# EAGLE library part DAC8760 (library we-chip)
TI DAC8760 DAC (0-10V, 0-20mA)
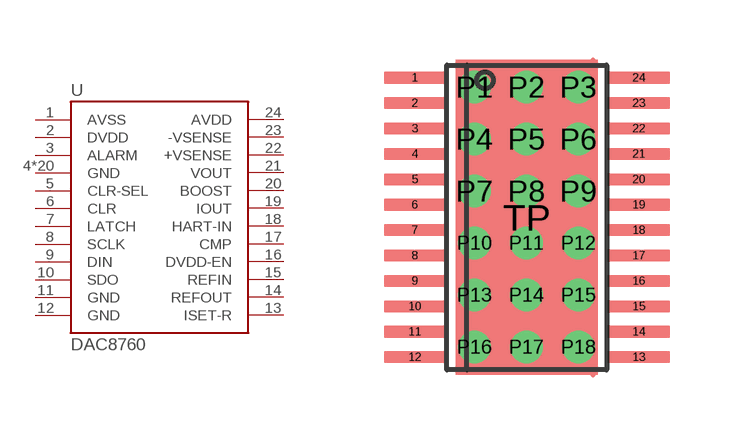
[diagram p5: symbol with the pads of HTSSOP24-PAD; footprint HTSSOP24-PAD]

Designator prefix -

## DAC8760-PWP  [HTSSOP24-PAD]
1  AVSS  pwr
2  DVDD  pwr
3  ALARM
4  GND  pwr
5  CLR-SEL
6  CLR
7  LATCH
8  SCLK
9  DIN
10  SDO
11  GND  pwr
12  GND  pwr
13  ISET-R
14  REFOUT
15  REFIN
16  DVDD-EN
17  CMP
18  HART-IN
19  IOUT
20  BOOST
21  VOUT
22  +VSENSE
23  -VSENSE
24  AVDD  pwr
P1  GND  pwr
P2  GND  pwr
P3  GND  pwr
P4  GND  pwr
P5  GND  pwr
P6  GND  pwr
P7  GND  pwr
P8  GND  pwr
P9  GND  pwr
P10  GND  pwr
P11  GND  pwr
P12  GND  pwr
P13  GND  pwr
P14  GND  pwr
P15  GND  pwr
P16  GND  pwr
P17  GND  pwr
P18  GND  pwr
TP  GND  pwr

## Footprint HTSSOP24-PAD (pad centres in mm)
smd 1.55 x 0.3: 1 -2.8,3.493; 2 -2.8,2.857; 3 -2.8,2.223; 4 -2.8,1.587; 5 -2.8,0.953; 6 -2.8,0.318; 7 -2.8,-0.318; 8 -2.8,-0.953; 9 -2.8,-1.587; 10 -2.8,-2.223; 11 -2.8,-2.857; 12 -2.8,-3.493; 13 2.8,-3.493; 14 2.8,-2.857; 15 2.8,-2.223; 16 2.8,-1.587; 17 2.8,-0.953; 18 2.8,-0.318; 19 2.8,0.318; 20 2.8,0.953; 21 2.8,1.587; 22 2.8,2.223; 23 2.8,2.857; 24 2.8,3.493
drill 0.3: P1 -1.31,3.265; P2 -0.011,3.265; P3 1.29,3.265; P4 -1.31,1.965; P5 -0.011,1.965; P6 1.29,1.965; P7 -1.31,0.665; P8 -0.011,0.665; P9 1.29,0.665; P10 -1.31,-0.635; P11 -0.011,-0.635; P12 1.29,-0.635; P13 -1.31,-1.935; P14 -0.011,-1.935; P15 1.29,-1.935; P16 -1.31,-3.235; P17 -0.011,-3.235; P18 1.29,-3.235
smd 1 x 1: TP 0,0